# EAGLE library part USBMICRO-USB-MR-D-02X (library yb-library)
USB - Micro B Female USB 2 5 SMD USB Connectors RoHS, Manufacturer DEALON
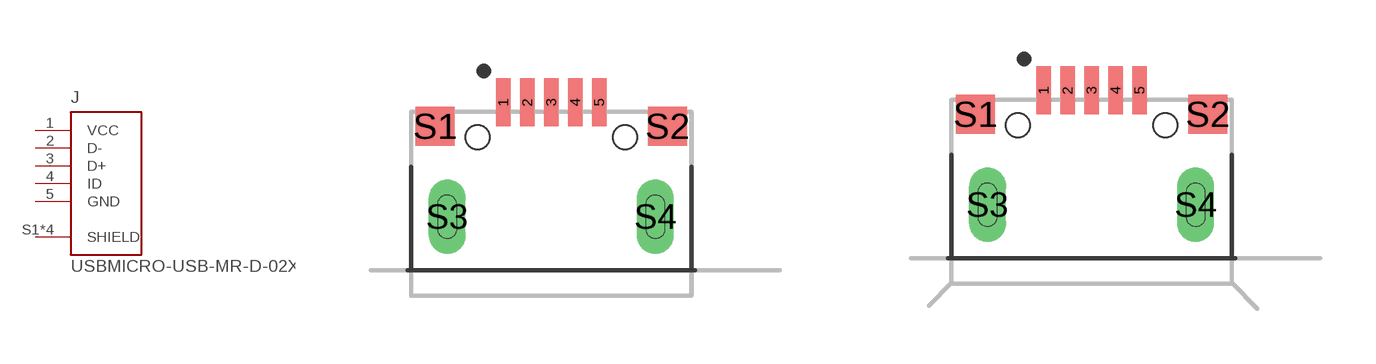
[diagram p26: symbol with the pads of USBMICRO-DEALON-USB-MR-D-022; footprints USBMICRO-DEALON-USB-MR-D-022, USBMICRO-DEALON-USB-MR-D-023]

Designator prefix J

## USBMICRO-USB-MR-D-02X-022  [USBMICRO-DEALON-USB-MR-D-022]
1  VCC  pwr
2  D-
3  D+
4  ID
5  GND  pwr
S1  SHIELD  pas
S2  SHIELD  pas
S3  SHIELD  pas
S4  SHIELD  pas

## USBMICRO-USB-MR-D-02X-023  [USBMICRO-DEALON-USB-MR-D-023]
Pads as for USBMICRO-DEALON-USB-MR-D-022

## Footprint USBMICRO-DEALON-USB-MR-D-022 (pad centres in mm)
smd 0.4 x 1.3: 1 -1.3,3.1; 2 -0.65,3.1; 3 0,3.1; 4 0.65,3.1; 5 1.3,3.1
smd 1.05 x 1.05: S1 -3.15,2.45; S2 3.15,2.45
drill 0.5 pad 0.85 long: S3 -2.825,0; S4 2.825,0
hole 0.65 at -2,2.15
hole 0.65 at 2,2.15

## Footprint USBMICRO-DEALON-USB-MR-D-023 (pad centres in mm)
smd 0.4 x 1.3: 1 -1.3,3.1; 2 -0.65,3.1; 3 0,3.1; 4 0.65,3.1; 5 1.3,3.1
smd 1.05 x 1.05: S1 -3.15,2.45; S2 3.15,2.45
drill 0.5 pad 0.85 long: S3 -2.825,0; S4 2.825,0
hole 0.65 at -2,2.15
hole 0.65 at 2,2.15